# EAGLE library part TTP223-BA6 (library TDSEMIC)
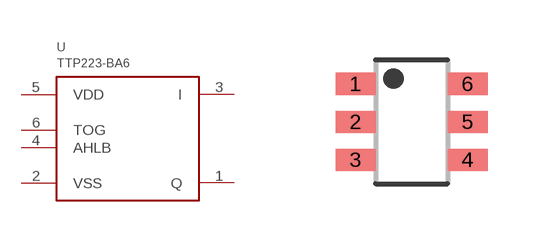
[diagram p0: symbol with the pads of SOT23-6; footprint SOT23-6]

Designator prefix U

## TTP223-BA6  [SOT23-6]
1  Q
2  VSS
3  I
4  AHLB
5  VDD
6  TOG

## Footprint SOT23-6 (pad centres in mm)
smd 1 x 0.55: 1 -1.4,0.95; 2 -1.4,0; 3 -1.4,-0.95; 4 1.4,-0.95; 5 1.4,0; 6 1.4,0.95